# EAGLE library part 691311500114 (library Wuerth_Elektronik_eiCan_Terminal_Blocks_v2.0)
WR-TBL Serie 311 - 5.08 mm Close Vertical PCB Header , 14 Pins
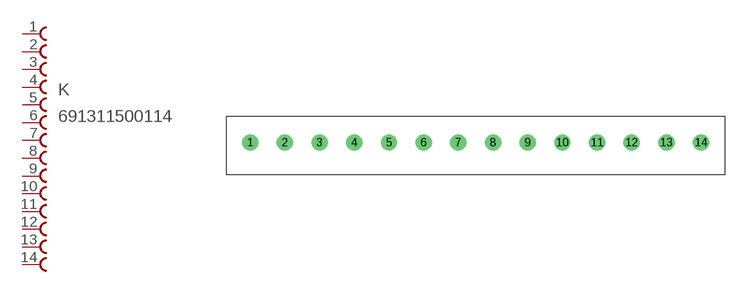
[diagram p80: symbol with the pads of 691311500114; footprint 691311500114]

Designator prefix K

## 691311500114  [691311500114]
1  1  pas
2  2  pas
3  3  pas
4  4  pas
5  5  pas
6  6  pas
7  7  pas
8  8  pas
9  9  pas
10  10  pas
11  11  pas
12  12  pas
13  13  pas
14  14  pas

## Footprint 691311500114 (pad centres in mm)
WR-TBL Serie 311 - 5.08 mm Close Vertical PCB Header , 14 Pins
drill 1.6 round: 1 -66.04,0; 2 -60.96,0; 3 -55.88,0; 4 -50.8,0; 5 -45.72,0; 6 -40.64,0; 7 -35.56,0; 8 -30.48,0; 9 -25.4,0; 10 -20.32,0; 11 -15.24,0; 12 -10.16,0; 13 -5.08,0; 14 0,0